# EAGLE library part FE03-2 (library bauteile_jbt)
FEMALE "Wannenbuchse"
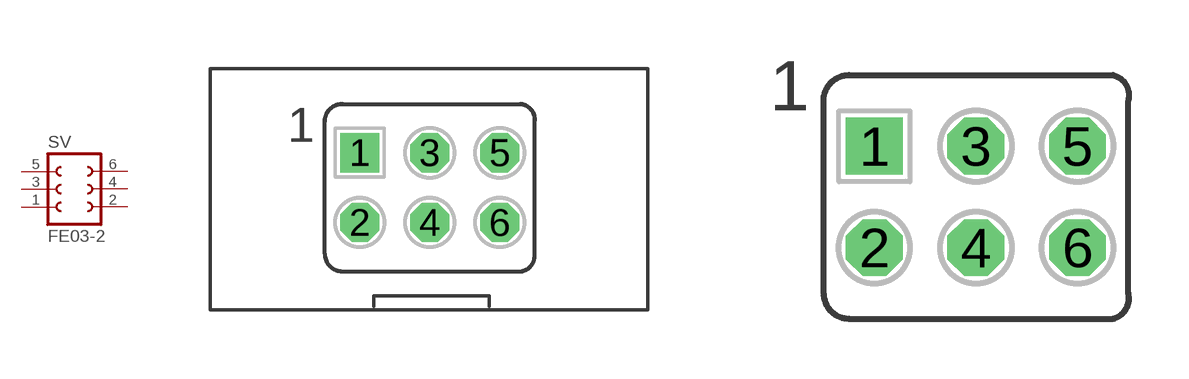
[diagram p3: symbol with the pads of FE03-2; footprints FE03-2, FE03-2RAW]

Designator prefix SV

## FE03-2  [FE03-2]
1  1  pas
2  2  pas
3  3  pas
4  4  pas
5  5  pas
6  6  pas

## FE03-2FE03-2RAW  [FE03-2RAW]
Pads as for FE03-2

## Footprint FE03-2 (pad centres in mm)
drill 0.914 square: 1 -2.54,1.27
drill 0.914 octagon: 2 -2.54,-1.27; 3 0,1.27; 4 0,-1.27; 5 2.54,1.27; 6 2.54,-1.27

## Footprint FE03-2RAW (pad centres in mm)
drill 0.914 square: 1 -2.54,1.27
drill 0.914 octagon: 2 -2.54,-1.27; 3 0,1.27; 4 0,-1.27; 5 2.54,1.27; 6 2.54,-1.27